# Altium schematic symbol library NCP785AH50T1G.Schlib: 1 symbol
Pins are listed as number, name and electrical type; pins without a type are passive.

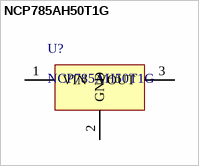
[diagram p0: symbol NCP785AH50T1G]

## NCP785AH50T1G
designator U?
Linear Voltage Regulator IC  1 Output  10mA SOT-89-3
pins: 1 VIN, 2 GND, 3 VOUT